# EAGLE library part MC100ELT24DG (library ON_Semiconductor_By_element14_Batch_1)
5V TTL to Differential ECL Translator
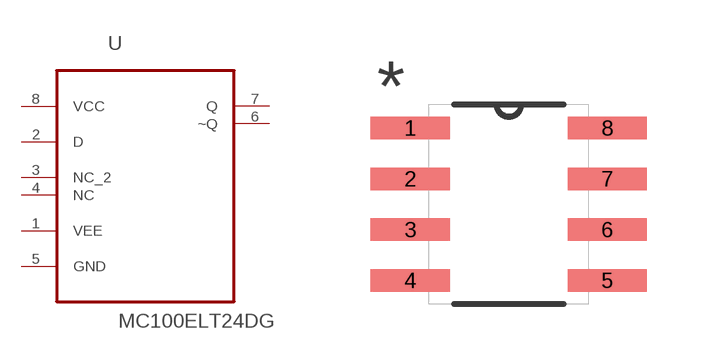
[diagram p90: symbol with the pads of SOIC127P600X175-8N; footprint SOIC127P600X175-8N]

Designator prefix U

## MC100ELT24DG (MPN: MC100ELT24DG; OC_FARNELL: 1192072; OC_NEWARK: 26K3810; PACKAGE: SOIC-8; SUPPLIER: Onsemiconductor)  [SOIC127P600X175-8N]
1  VEE  pwr
2  D  in
3  NC_2  nc
4  NC  nc
5  GND  pas
6  ~Q  out
7  Q  out
8  VCC  pwr

## Footprint SOIC127P600X175-8N (pad centres in mm)
smd 1.981 x 0.559: 1 -2.464,1.905; 2 -2.464,0.635; 3 -2.464,-0.635; 4 -2.464,-1.905; 5 2.464,-1.905; 6 2.464,-0.635; 7 2.464,0.635; 8 2.464,1.905